# EAGLE library part ATMEGA32U4 (library blinkinlabs)
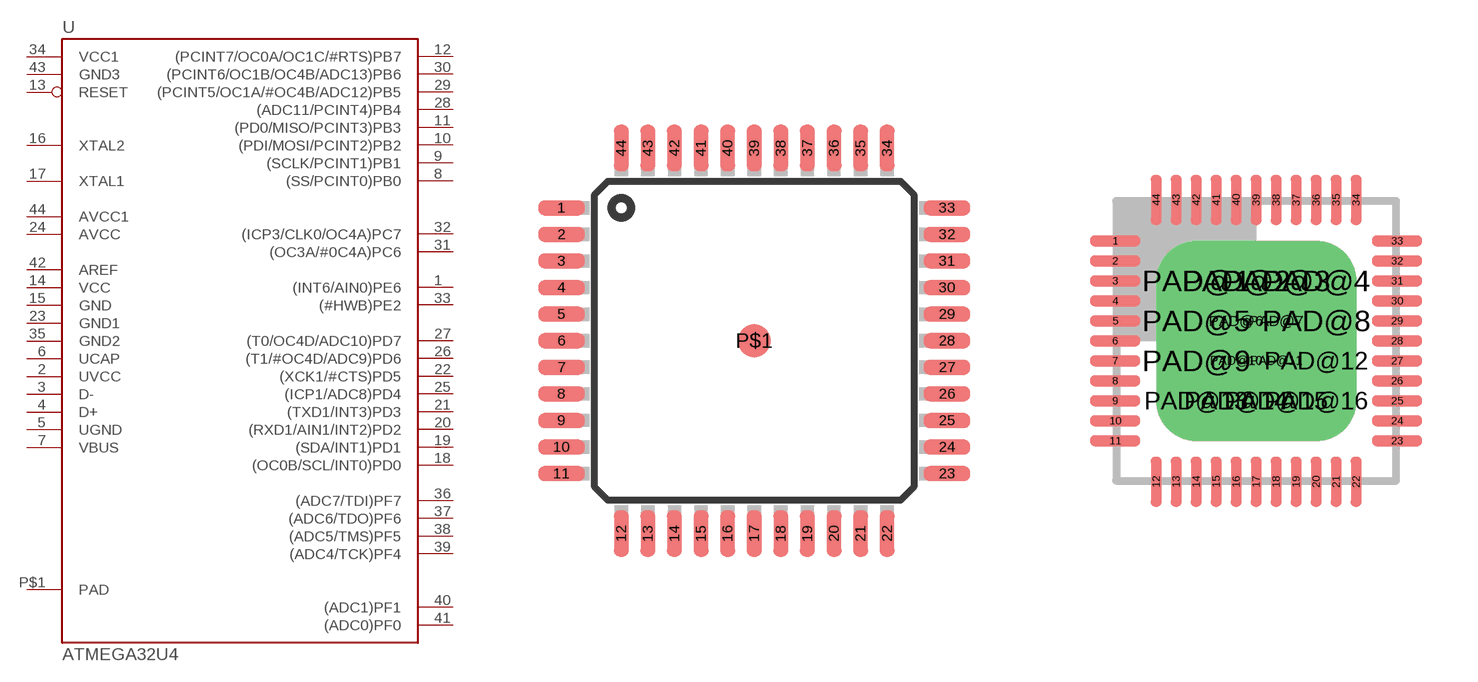
[diagram p16: symbol with the pads of TQFP44-PAD; footprints TQFP44-PAD, QFN44ML7X7_LONGLEADS]

Designator prefix -

## ATMEGA32U4AU  [TQFP44-PAD]
1  (INT6/AIN0)PE6
2  UVCC  pwr
3  D-
4  D+
5  UGND  pwr
6  UCAP  pas
7  VBUS  in
8  (SS/PCINT0)PB0
9  (SCLK/PCINT1)PB1
10  (PDI/MOSI/PCINT2)PB2
11  (PD0/MISO/PCINT3)PB3
12  (PCINT7/OC0A/OC1C/#RTS)PB7
13  RESET  in
14  VCC  pwr
15  GND  pwr
16  XTAL2
17  XTAL1
18  (OC0B/SCL/INT0)PD0
19  (SDA/INT1)PD1
20  (RXD1/AIN1/INT2)PD2
21  (TXD1/INT3)PD3
22  (XCK1/#CTS)PD5
23  GND1  pwr
24  AVCC  pwr
25  (ICP1/ADC8)PD4
26  (T1/#OC4D/ADC9)PD6
27  (T0/OC4D/ADC10)PD7
28  (ADC11/PCINT4)PB4
29  (PCINT5/OC1A/#OC4B/ADC12)PB5
30  (PCINT6/OC1B/OC4B/ADC13)PB6
31  (OC3A/#0C4A)PC6
32  (ICP3/CLK0/OC4A)PC7
33  (#HWB)PE2
34  VCC1  pwr
35  GND2  pwr
36  (ADC7/TDI)PF7
37  (ADC6/TDO)PF6
38  (ADC5/TMS)PF5
39  (ADC4/TCK)PF4
40  (ADC1)PF1
41  (ADC0)PF0
42  AREF  pwr
43  GND3  pwr
44  AVCC1  pwr
P$1  PAD  pwr

## ATMEGA32U4MU_LONG  [QFN44ML7X7_LONGLEADS]
1  (INT6/AIN0)PE6
2  UVCC  pwr
3  D-
4  D+
5  UGND  pwr
6  UCAP  pas
7  VBUS  in
8  (SS/PCINT0)PB0
9  (SCLK/PCINT1)PB1
10  (PDI/MOSI/PCINT2)PB2
11  (PD0/MISO/PCINT3)PB3
12  (PCINT7/OC0A/OC1C/#RTS)PB7
13  RESET  in
14  VCC  pwr
15  GND  pwr
16  XTAL2
17  XTAL1
18  (OC0B/SCL/INT0)PD0
19  (SDA/INT1)PD1
20  (RXD1/AIN1/INT2)PD2
21  (TXD1/INT3)PD3
22  (XCK1/#CTS)PD5
23  GND1  pwr
24  AVCC  pwr
25  (ICP1/ADC8)PD4
26  (T1/#OC4D/ADC9)PD6
27  (T0/OC4D/ADC10)PD7
28  (ADC11/PCINT4)PB4
29  (PCINT5/OC1A/#OC4B/ADC12)PB5
30  (PCINT6/OC1B/OC4B/ADC13)PB6
31  (OC3A/#0C4A)PC6
32  (ICP3/CLK0/OC4A)PC7
33  (#HWB)PE2
34  VCC1  pwr
35  GND2  pwr
36  (ADC7/TDI)PF7
37  (ADC6/TDO)PF6
38  (ADC5/TMS)PF5
39  (ADC4/TCK)PF4
40  (ADC1)PF1
41  (ADC0)PF0
42  AREF  pwr
43  GND3  pwr
44  AVCC1  pwr
PAD@1  PAD  pwr
PAD@2  PAD  pwr
PAD@3  PAD  pwr
PAD@4  PAD  pwr
PAD@5  PAD  pwr
PAD@6  PAD  pwr
PAD@7  PAD  pwr
PAD@8  PAD  pwr
PAD@9  PAD  pwr
PAD@10  PAD  pwr
PAD@11  PAD  pwr
PAD@12  PAD  pwr
PAD@13  PAD  pwr
PAD@14  PAD  pwr
PAD@15  PAD  pwr
PAD@16  PAD  pwr

## ATMEGA32U4MU_MODDED  [QFN44ML_7X7_LONGLEADS_MOD]
1  (INT6/AIN0)PE6
2  UVCC  pwr
3  D-
4  D+
5  UGND  pwr
6  UCAP  pas
7  VBUS  in
8  (SS/PCINT0)PB0
9  (SCLK/PCINT1)PB1
10  (PDI/MOSI/PCINT2)PB2
11  (PD0/MISO/PCINT3)PB3
12  (PCINT7/OC0A/OC1C/#RTS)PB7
13  RESET  in
14  VCC  pwr
15  GND  pwr
16  XTAL2
17  XTAL1
18  (OC0B/SCL/INT0)PD0
19  (SDA/INT1)PD1
20  (RXD1/AIN1/INT2)PD2
21  (TXD1/INT3)PD3
22  (XCK1/#CTS)PD5
23  GND1  pwr
24  AVCC  pwr
25  (ICP1/ADC8)PD4
26  (T1/#OC4D/ADC9)PD6
27  (T0/OC4D/ADC10)PD7
28  (ADC11/PCINT4)PB4
29  (PCINT5/OC1A/#OC4B/ADC12)PB5
30  (PCINT6/OC1B/OC4B/ADC13)PB6
31  (OC3A/#0C4A)PC6
32  (ICP3/CLK0/OC4A)PC7
33  (#HWB)PE2
34  VCC1  pwr
35  GND2  pwr
36  (ADC7/TDI)PF7
37  (ADC6/TDO)PF6
38  (ADC5/TMS)PF5
39  (ADC4/TCK)PF4
40  (ADC1)PF1
41  (ADC0)PF0
42  AREF  pwr
43  GND3  pwr
44  AVCC1  pwr
PAD@1  PAD  pwr
PAD@4  PAD  pwr
PAD@13  PAD  pwr
PAD@16  PAD  pwr

## Footprint TQFP44-PAD (pad centres in mm)
44-lead Thin Quad Flat Package
smd 1.4 x 0.45: 1 -5.8,4; 2 -5.8,3.2; 3 -5.8,2.4; 4 -5.8,1.6; 5 -5.8,0.8; 6 -5.8,0; 7 -5.8,-0.8; 8 -5.8,-1.6; 9 -5.8,-2.4; 10 -5.8,-3.2; 11 -5.8,-4; 23 5.8,-4; 24 5.8,-3.2; 25 5.8,-2.4; 26 5.8,-1.6; 27 5.8,-0.8; 28 5.8,0; 29 5.8,0.8; 30 5.8,1.6; 31 5.8,2.4; 32 5.8,3.2; 33 5.8,4
smd 0.45 x 1.4: 12 -4,-5.8; 13 -3.2,-5.8; 14 -2.4,-5.8; 15 -1.6,-5.8; 16 -0.8,-5.8; 17 0,-5.8; 18 0.8,-5.8; 19 1.6,-5.8; 20 2.4,-5.8; 21 3.2,-5.8; 22 4,-5.8; 34 4,5.8; 35 3.2,5.8; 36 2.4,5.8; 37 1.6,5.8; 38 0.8,5.8; 39 0,5.8; 40 -0.8,5.8; 41 -1.6,5.8; 42 -2.4,5.8; 43 -3.2,5.8; 44 -4,5.8
smd 1 x 1: P$1 0,0

## Footprint QFN44ML7X7_LONGLEADS (pad centres in mm)
smd 1.25 x 0.275: 1 -3.525,2.5; 2 -3.525,2; 3 -3.525,1.5; 4 -3.525,1; 5 -3.525,0.5; 6 -3.525,0; 7 -3.525,-0.5; 8 -3.525,-1; 9 -3.525,-1.5; 10 -3.525,-2; 11 -3.525,-2.5; 23 3.525,-2.5; 24 3.525,-2; 25 3.525,-1.5; 26 3.525,-1; 27 3.525,-0.5; 28 3.525,0; 29 3.525,0.5; 30 3.525,1; 31 3.525,1.5; 32 3.525,2; 33 3.525,2.5
smd 0.275 x 1.25: 12 -2.5,-3.525; 13 -2,-3.525; 14 -1.5,-3.525; 15 -1,-3.525; 16 -0.5,-3.525; 17 0,-3.525; 18 0.5,-3.525; 19 1,-3.525; 20 1.5,-3.525; 21 2,-3.525; 22 2.5,-3.525; 34 2.5,3.525; 35 2,3.525; 36 1.5,3.525; 37 1,3.525; 38 0.5,3.525; 39 0,3.525; 40 -0.5,3.525; 41 -1,3.525; 42 -1.5,3.525; 43 -2,3.525; 44 -2.5,3.525
drill 0.35 pad 2: PAD@1 -1.5,1.5; PAD@4 1.5,1.5; PAD@13 -1.5,-1.5; PAD@16 1.5,-1.5
drill 0.35 pad 2 square: PAD@2 -0.5,1.5; PAD@3 0.5,1.5; PAD@5 -1.5,0.5; PAD@8 1.5,0.5; PAD@9 -1.5,-0.5; PAD@12 1.5,-0.5; PAD@14 -0.5,-1.5; PAD@15 0.5,-1.5
drill 0.35 pad 1 square: PAD@6 -0.5,0.5; PAD@7 0.5,0.5; PAD@10 -0.5,-0.5; PAD@11 0.5,-0.5

## Footprint QFN44ML_7X7_LONGLEADS_MOD (pad centres in mm)
smd 1.25 x 0.275: 1 -3.525,2.5; 2 -3.525,2; 3 -3.525,1.5; 4 -3.525,1; 5 -3.525,0.5; 6 -3.525,0; 7 -3.525,-0.5; 8 -3.525,-1; 9 -3.525,-1.5; 10 -3.525,-2; 11 -3.525,-2.5; 23 3.525,-2.5; 24 3.525,-2; 25 3.525,-1.5; 26 3.525,-1; 27 3.525,-0.5; 28 3.525,0; 29 3.525,0.5; 30 3.525,1; 31 3.525,1.5; 32 3.525,2; 33 3.525,2.5
smd 0.275 x 1: 12 -2.5,-3.4; 18 0.5,-3.4
smd 0.275 x 1.25: 13 -2,-3.525; 14 -1.5,-3.525; 15 -1,-3.525; 16 -0.5,-3.525; 17 0,-3.525; 19 1,-3.525; 20 1.5,-3.525; 21 2,-3.525; 22 2.5,-3.525; 34 2.5,3.525; 35 2,3.525; 36 1.5,3.525; 37 1,3.525; 38 0.5,3.525; 39 0,3.525; 40 -0.5,3.525; 41 -1,3.525; 42 -1.5,3.525; 43 -2,3.525; 44 -2.5,3.525
drill 0.35 pad 1.5 square: PAD@1 -0.75,0.75; PAD@4 0.75,0.75; PAD@13 -0.75,-0.75; PAD@16 0.75,-0.75